# Altium footprint library TC33X-2-103E.PcbLib: 1 footprints
Each footprint in its own frame and in the unit in brackets; x right, y up, seen from the top. Pads: shape width x height; smd on the part's side, far side on the other; paste and mask are expansions set on the pad; w line width, h text height; cw(c..) or ccw(c..) is an arc to the next point about the centre after c.
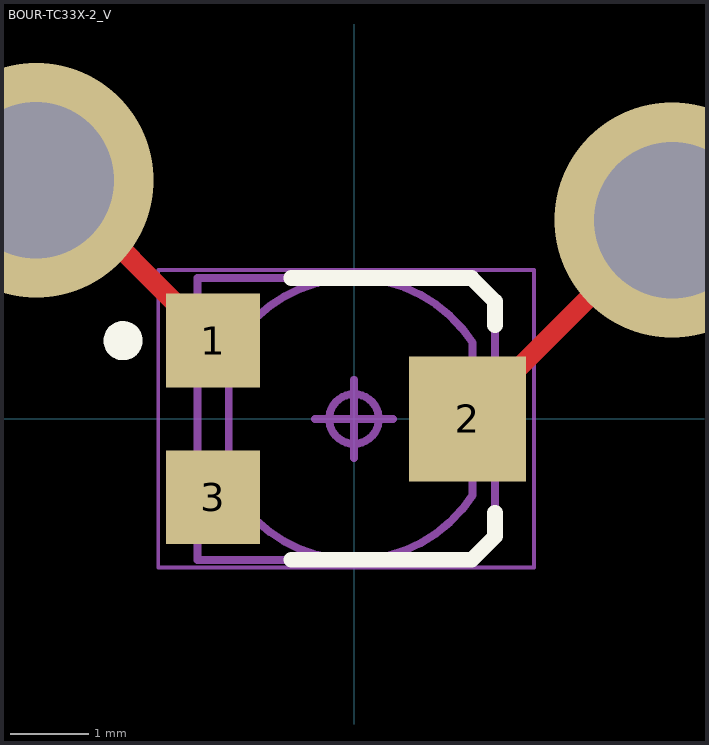
[diagram p0: the footprint, top view; thin cyan lines are the x and y axes]

## BOUR-TC33X-2_V [mm] "SMD, 3-Leads, Body 3.8x3.6mm"
height 1.2
pads (3):
  rect 1.2x1.2 smd: 1(-1.8,1) 3(-1.8,-1)
  rect 1.5x1.6 smd: 2(1.45,0)
via -4.064,3.048 diameter 3 hole 2
via 4.064,2.54 diameter 3 hole 2
Top Layer:
  lines w0.254: -4.064,3.048 -3.848,3.048 -1.8,1 ; 1.524,0 1.45,0 3.99,2.54 4.064,2.54
Top Overlay:
  circle w0.25: c-2.95,1 r0.125
  lines w0.2: -0.8,-1.8 1.5,-1.8 1.8,-1.5 1.8,-1.2 ; -0.8,1.8 1.5,1.8 1.8,1.5 1.8,1.2
Mechanical 13:
  lines w0.1: 1.515,-0.73 1.95,-0.73 1.95,-0.425 1.8,-0.425 ; 1.515,0.73 1.95,0.73 1.95,0.425 1.8,0.425 ; 1.8,-0.75 1.8,-1.5 1.5,-1.8 -2,-1.8 -2,1.8 1.5,1.8 1.8,1.5 1.8,0.75 ; 1.8,-0.42 1.8,0.42 ; -1.6,-0.895 -1.6,0.895 -1.25,0.895 -1.25,1.295 cw(c0,0) 1.515,0.972 1.515,0.352 cw(c1.16,0) 1.515,-0.352 1.515,-0.972 cw(c0,0) -1.25,-1.295 -1.25,-0.895 -1.6,-0.895 ; 0,-0.318 ccw(c0,0) 0,0.317 ccw(c0,0) 0,-0.318
Mechanical 15:
  lines w0.05: -2.5,-1.9 -2.5,1.9 2.3,1.9 2.3,-1.9 -2.5,-1.9
  lines w0.1: -0.5,0 0.5,0 ; 0,-0.5 0,0.5
3D body "BOUR-TC33X-2.stp": height 1.15, standoff 0, extent -2,-1.8 1.963,1.8